# EAGLE library part CONN_6X1_JST_PA (library leaf)
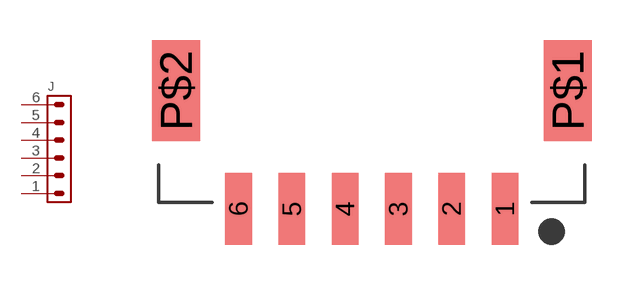
[diagram p5: symbol with the pads of CONN_6X1_JST_PA; footprint CONN_6X1_JST_PA]

Designator prefix J

## CONN_6X1_JST_PA  [CONN_6X1_JST_PA]
1  1
2  2
3  3
4  4
5  5
6  6

## Footprint CONN_6X1_JST_PA (pad centres in mm)
smd 1 x 2.7: 1 5,-9.15; 2 3,-9.15; 3 1,-9.15; 4 -1,-9.15; 5 -3,-9.15; 6 -5,-9.15
smd 1.8 x 3.8: P$1 7.35,-4.7; P$2 -7.35,-4.7